# EAGLE library part ZERO_6B (library raspberry_pi)
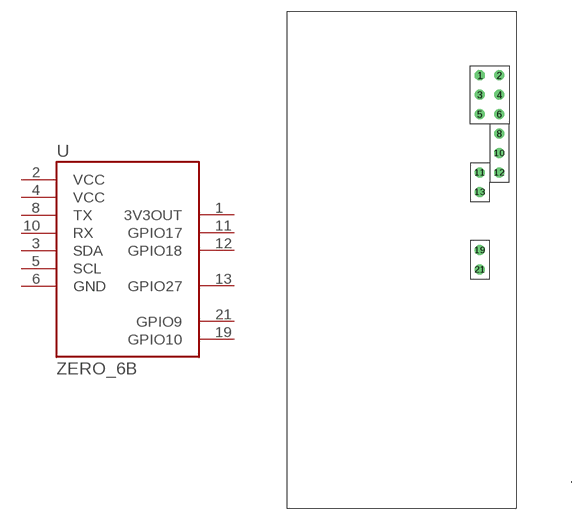
[diagram p2: symbol with the pads of ZERO_6B; footprint ZERO_6B]

Designator prefix -

## ZERO_6B  [ZERO_6B]
1  3V3OUT  pwr
2  VCC  pwr
3  SDA
4  VCC  pwr
5  SCL
6  GND  pwr
8  TX
10  RX
11  GPIO17
12  GPIO18
13  GPIO27
19  GPIO10  in
21  GPIO9  pwr

## Footprint ZERO_6B (pad centres in mm)
drill 0.8 octagon: 1 -1.27,24.13
drill 0.8 round: 2 1.27,24.13; 3 -1.27,21.59; 4 1.27,21.59; 5 -1.27,19.05; 6 1.27,19.05; 8 1.27,16.51; 10 1.27,13.97; 11 -1.27,11.43; 12 1.27,11.43; 13 -1.27,8.89; 19 -1.27,1.27; 21 -1.27,-1.27